# Altium footprint library Lab_1.PcbLib: 4 footprints
Each footprint in its own frame and in the unit in brackets; x right, y up, seen from the top. Pads: shape width x height; smd on the part's side, far side on the other; paste and mask are expansions set on the pad; w line width, h text height; cw(c..) or ccw(c..) is an arc to the next point about the centre after c.
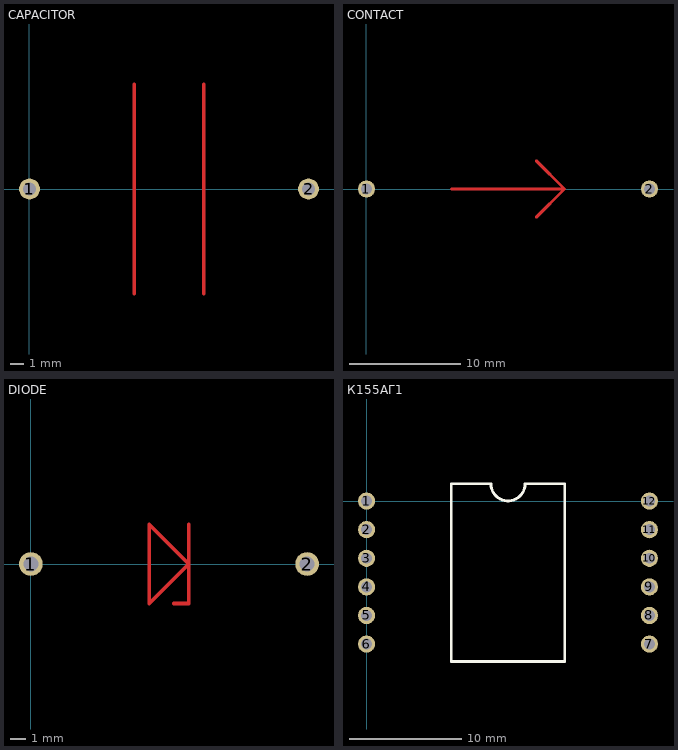
[diagram p0: the footprints below, top view; thin cyan lines are the x and y axes]

## CAPACITOR [mil]
pads (2):
  round 60 hole 38: 1(0,0) 2(800,0)
Top Layer:
  lines w10: 300,-300 300,300 ; 500,-300 500,300

## CONTACT [mil]
pads (2):
  round 60 hole 38: 1(0,0) 2(1000,0)
Top Layer:
  lines w10: 300,0 700,0 ; 600,-100 700,0 ; 600,100 700,0

## DIODE [mil]
pads (2):
  round 60 hole 38: 1(0,0) 2(700,0)
Top Layer:
  lines w10: 362.2,-100 398.82,-100 ; 400,-100 400,0 ; 400,100 400,0 ; 400,0 300,100 300,-100 400,0

## К155АГ1 [mil]
pads (12):
  round 60 hole 38: 1(0,0) 2(0,-100) 3(0,-200) 4(0,-300) 5(0,-400) 6(0,-500) 7(988.98,-500) 8(988.98,-400) 9(988.98,-300) 10(988.98,-200) 11(988.98,-100) 12(988.98,0)
Top Overlay:
  lines w10: 296.06,-560.63 692.91,-560.63 692.91,60.63 554.49,60.63 cw(c494.49,60.63) 434.49,60.63 296.06,60.63 296.06,-560.63